# EAGLE library part 1040310811_LCSC (library lcsc_parts)
Description: Micro SD card (TF card) Connector and Ejector Push-Pull Surface Mount Manufacturer: MOLEX MPN: 1040310811 LCSC Part: C585350 Category: PC Card Sockets Datasheet: https://datasheet.lcsc.com/datasheet/pdf/541e9f28cb856b9ee4390625509ae3af.pdf?productCode=C585350
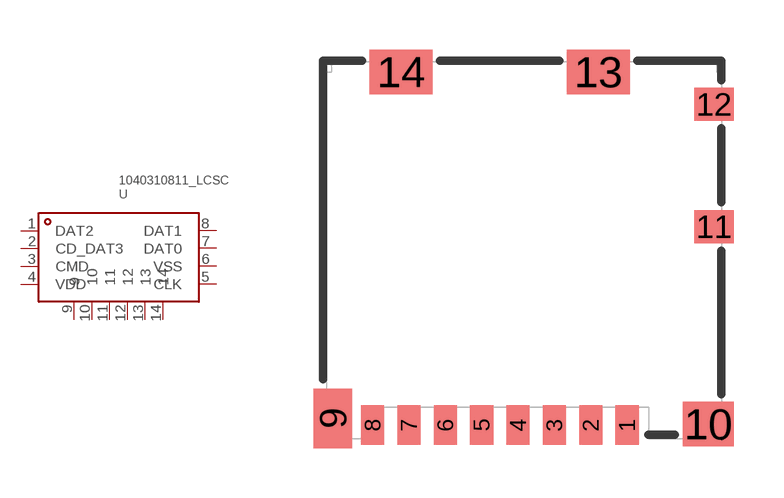
[diagram p10: symbol with the pads of SIM-SMD_8P-1040310811; footprint SIM-SMD_8P-1040310811]

Designator prefix U

## 1040310811_LCSC (CARD_CONNECTION_MODE: Push-Pull; CARD_TYPE: MicroSD Card (TF Card); CATEGORY: PC Card Sockets; CONNECTOR_TYPE: Connector and Ejector; DATASHEET: https://datasheet.lcsc.com/datasheet/pdf/541e9f28cb856b9ee4390625509ae3af.pdf?productCode=C585350; DESCRIPTION: Micro SD card (TF card) Connector and Ejector Push-Pull Surface Mount; HEIGHT_ABOVE_BOARD: 1.42mm; LCSC_PART: C585350; LCSC_STOCK: 24359; MANUFACTURER: MOLEX; MPN: 1040310811; OPERATING_TEMPERATURE: -25℃~+85℃; PARTNO: 1040310811; PRICING_1000: $0.3091/unit @ 1000; PRICING_50: $0.4458/unit @ 50)  [SIM-SMD_8P-1040310811]
1  DAT2
2  CD_DAT3
3  CMD
4  VDD
5  CLK
6  VSS
7  DAT0
8  DAT1
9  9
10  10
11  11
12  12
13  13
14  14

## Footprint SIM-SMD_8P-1040310811 (pad centres in mm)
smd 0.7 x 1.2: 1 3.14,-5.34; 2 2.04,-5.34; 3 0.94,-5.34; 4 -0.16,-5.34; 5 -1.26,-5.34; 6 -2.36,-5.34; 7 -3.46,-5.34; 8 -4.56,-5.34
smd 1.17 x 1.8: 9 -5.77,-5.14
smd 1.55 x 1.35: 10 5.6,-5.31
smd 1.2 x 1: 11 5.77,0.66; 12 5.77,4.36
smd 1.9 x 1.35: 13 2.27,5.34; 14 -3.7,5.34